# Altium footprint library CONNECTOR - DSUB.PcbLib: 1 footprints
Each footprint in its own frame and in the unit in brackets; x right, y up, seen from the top. Pads: shape width x height; smd on the part's side, far side on the other; paste and mask are expansions set on the pad; w line width, h text height; cw(c..) or ccw(c..) is an arc to the next point about the centre after c.
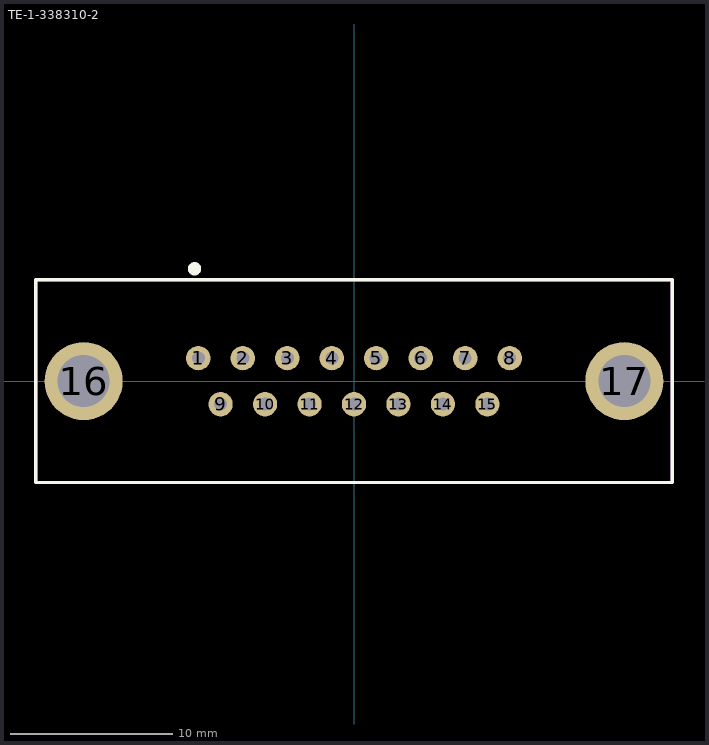
[diagram p0: the footprint, top view; thin cyan lines are the x and y axes]

## TE-1-338310-2 [mm]
pads (17):
  round 1.5 hole 0.8: 1(-9.59,1.42) 2(-6.85,1.42) 3(-4.11,1.42) 4(-1.37,1.42) 5(1.37,1.42) 6(4.11,1.42) 7(6.85,1.42) 8(9.59,1.42) 9(-8.22,-1.42) 10(-5.48,-1.42) 11(-2.74,-1.42) 12(0,-1.42) 13(2.74,-1.42) 14(5.48,-1.42) 15(8.22,-1.42)
  round 4.8 hole 3.2: 16(-16.65,0) 17(16.65,0)
Top Overlay:
  circle w0.4: c-9.82,6.922 r0.209
  lines w0.2: -19.6,-6.25 -19.6,6.25 19.6,6.25 19.6,-6.25 -19.6,-6.25
Mechanical 13:
  lines w0.2: -19.6,-6.25 19.6,-6.25 19.6,6.25 -19.6,6.25 -19.6,-6.25
3D body "1-338310-2.stp": height 10.53, standoff -4.72, extent -19.57,-6.32 19.65,6.08